# Altium schematic symbol library 693043020611.SchLib: 1 symbol
Pins are listed as number, name and electrical type; pins without a type are passive.

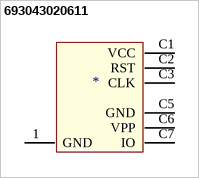
[diagram p0: symbol 693043020611]

## 693043020611
designator *  (value not drawn)
pins: 1 GND, C1 VCC, C2 RST, C3 CLK, C5 GND, C6 VPP, C7 IO